# Altium schematic symbol library TPS63031DSKR.SchLib: 1 symbol
Pins are listed as number, name and electrical type; pins without a type are passive.

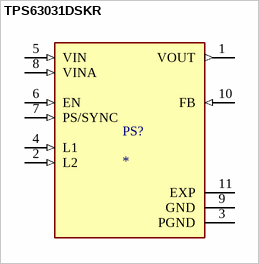
[diagram p0: symbol TPS63031DSKR]

## TPS63031DSKR
designator PS?
High Efficient Single Inductor Buck-Boost Converter with 1-A Switches; MP: TPS63031DSKR; Availability: Unavailable; Value: *; Package: None; Price: None
footprint SON50P250X250X80-11N
pins: 1 VOUT (out), 2 L2 (in), 3 PGND (power), 4 L1 (in), 5 VIN (in), 6 EN (in), 7 PS/SYNC (in), 8 VINA (in), 9 GND (power), 10 FB (in), 11 EXP